# Altium schematic symbol library CSS2H-3920R-L500FE.SchLib: 1 symbol
Pins are listed as number, name and electrical type; pins without a type are passive.

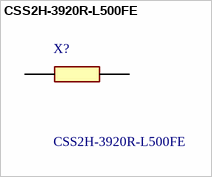
[diagram p0: symbol CSS2H-3920R-L500FE]

## CSS2H-3920R-L500FE
designator X?
Current Sense Resistors - SMD 0.5mOHMS 9W 1% AEC-Q200; Manufacturer_Name: Bourns; Geometry.Height: 1.37mm; Mouser Part Number: 652-CSS2H3920RL500FE; Mouser Price/Stock: https://www.mouser.co.uk/ProductDetail/Bourns/CSS2H-3920R-L500FE?qs=jDo7WO9B8mvspaU1ICmTLQ%3D%3D; Manufacturer_Part_Number: CSS2H-3920R-L500FE; Datasheet Link: https://www.bourns.com/docs/Product-Datasheets/css2h-3920.pdf
footprint RESC10052X137N
pins: 1, 2